# Altium schematic symbol library LedRgbWs2812b.SchLib: 1 symbol
Pins are listed as number, name and electrical type; pins without a type are passive.

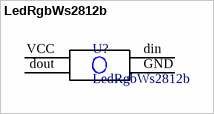
[diagram p0: symbol LedRgbWs2812b]

## LedRgbWs2812b
designator U?
footprint LedRgbWs2812b
pins: din, dout, GND, VCC